# Altium schematic symbol library house.SchLib: 4 symbols
Pins are listed as number, name and electrical type; pins without a type are passive.

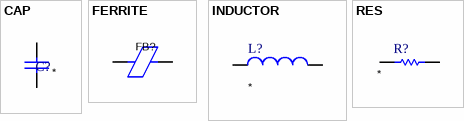
[diagram p0: symbols CAP to RES]

## CAP
designator C?  (value not drawn)
Tcr: *; Tolerance: *; MFG: *; MPN: *; Tr: *; Voltage: *; Power: *; Qual: *; Package: *; Value: *
pins: 1, 2

## FERRITE
designator FB?  (value not drawn)
pins: 1, 2

## INDUCTOR
designator L?  (value not drawn)
Value: *
pins: 1, 2

## RES
designator R?  (value not drawn)
Tcr: *; Tolerance: *; MFG: *; MPN: *; Tr: *; Voltage: *; Power: *; Qual: *; Package: *; Value: *
pins: 1, 2